# Altium integrated library 1uF 16V X5R.IntLib: 1 symbol
Pins are listed as number, name and electrical type; pins without a type are passive.

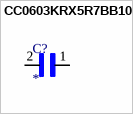
[diagram p0: symbol CC0603KRX5R7BB105]

## CC0603KRX5R7BB105
designator C?
1ÂµF Â±10% 16V Ceramic Capacitor X5R 0603 (1608 Metric); MP: CC0603KRX5R7BB105; MF: Yageo; Package: 0603 Yageo; SnapEDA_Link: https://www.snapeda.com/parts/CC0603KRX5R7BB105/Yageo/view-part/550330/?ref=snap; Purchase-URL: https://pricing.snapeda.com/search/part/CC0603KRX5R7BB105/?ref=eda; Value: *; Availability: Good; Price: None; Check_prices: https://www.snapeda.com/parts/CC0603KRX5R7BB105/Yageo/view-part/550330/?ref=eda
footprint CAPC1608X90
pins: 1, 2